# Altium schematic symbol library Dual_Op_Amp.SchLib: 1 symbol
Pins are listed as number, name and electrical type; pins without a type are passive.

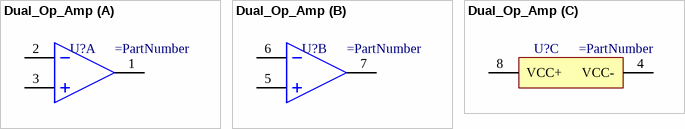
[diagram p0: symbol Dual_Op_Amp]

## Dual_Op_Amp
designator U?
part A pins: 1 OUT1, 2 IN1-, 3 IN1+
part B pins: 5 IN2+, 6 IN2-, 7 OUT2
part C pins: 4 VCC-, 8 VCC+